# Altium footprint library ZX-D21.PcbLib: 1 footprints
Each footprint in its own frame and in the unit in brackets; x right, y up, seen from the top. Pads: shape width x height; smd on the part's side, far side on the other; paste and mask are expansions set on the pad; w line width, h text height; cw(c..) or ccw(c..) is an arc to the next point about the centre after c.
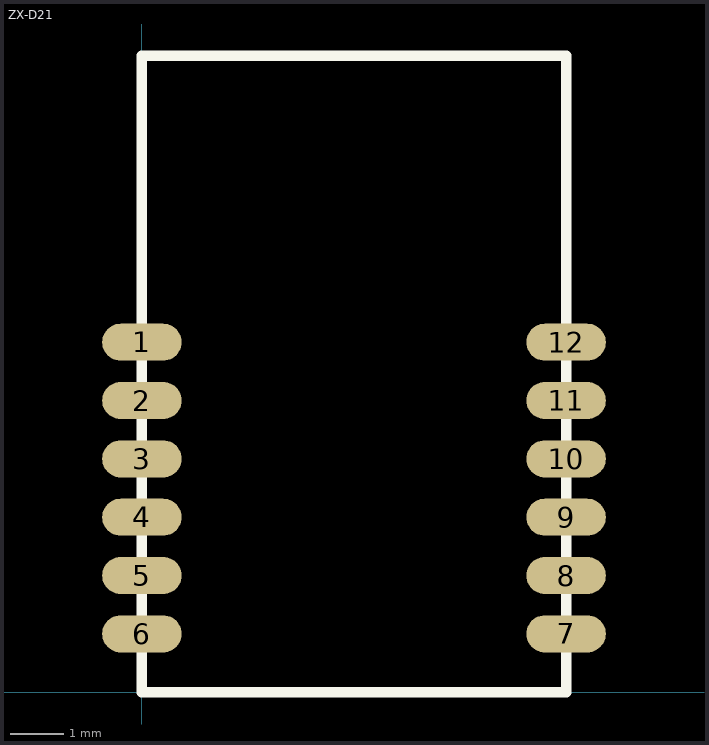
[diagram p0: the footprint, top view; thin cyan lines are the x and y axes]

## ZX-D21 [mm]
pads (12):
  oval 1.5x0.7 smd: 1(0,6.6) 2(0,5.5) 3(0,4.4) 4(0,3.3) 5(0,2.2) 6(0,1.1) 7(8,1.1) 8(8,2.2) 9(8,3.3) 10(8,4.4) 11(8,5.5) 12(8,6.6)
Top Overlay:
  lines w0.2: 0,0 8,0 8,12 0,12 0,0